# Altium footprint library Balun.PcbLib: 1 footprints
Each footprint in its own frame and in the unit in brackets; x right, y up, seen from the top. Pads: shape width x height; smd on the part's side, far side on the other; paste and mask are expansions set on the pad; w line width, h text height; cw(c..) or ccw(c..) is an arc to the next point about the centre after c.
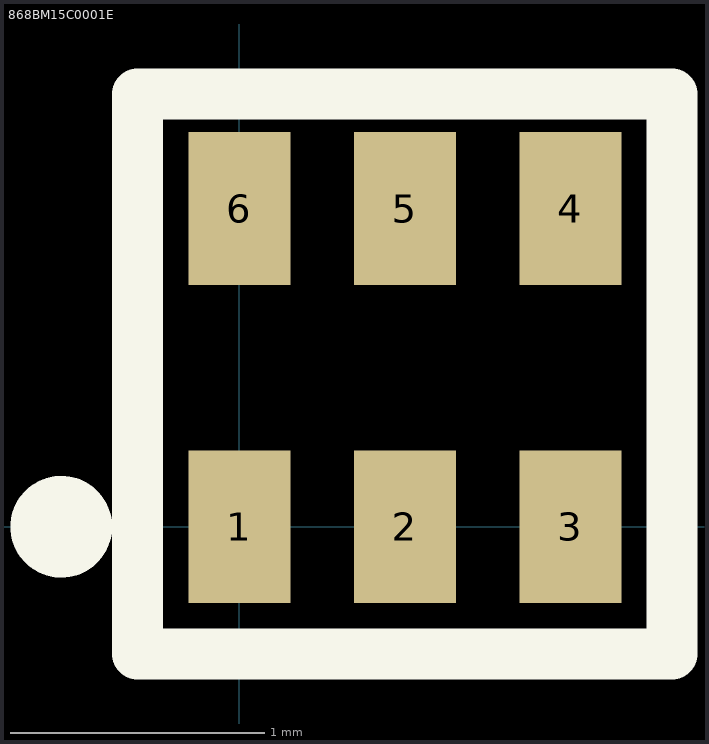
[diagram p0: the footprint, top view; thin cyan lines are the x and y axes]

## 868BM15C0001E [mm]
pads (6):
  rect 0.4x0.6 smd: 1(0,0) 2(0.65,0) 3(1.3,0) 4(1.3,1.25) 5(0.65,1.25) 6(0,1.25)
Top Overlay:
  circle w0.2: c-0.7,0 r0.1
  lines w0.2: -0.4,-0.5 1.7,-0.5 1.7,1.7 -0.4,1.7 -0.4,-0.5
3D body: height 0.8, standoff 0, extent -0.35,0 1.65,1.25